# EAGLE library part MAX5430 (library ic)
MAX5430: Digitally programmable voltage divide (Maxim) ±15V, 3V logic
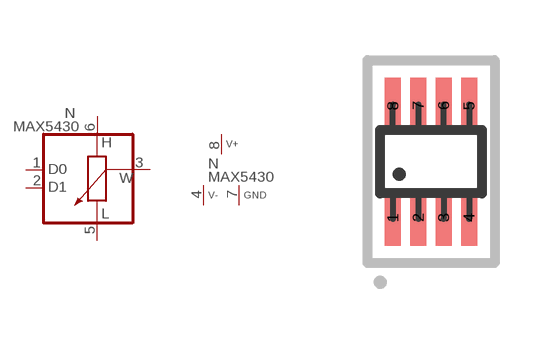
[diagram p109: symbol with the pads of SOT23-8; footprint SOT23-8]

Designator prefix N; gates  =MAX5430 P=V+-GND

## MAX5430  [SOT23-8]
1   :D0  in
2   :D1  in
3   :W  pas
4  P:V-  pwr
5   :L  pas
6   :H  pas
7  P:GND  pwr
8  P:V+  pwr

## Footprint SOT23-8 (pad centres in mm)
SOT23-8 SMD package SOT23-8, 8 pins
smd 0.4 x 1.4: 1 -0.953,-1.4; 2 -0.318,-1.4; 3 0.318,-1.4; 4 0.953,-1.4; 5 0.953,1.4; 6 0.318,1.4; 7 -0.318,1.4; 8 -0.953,1.4